# Altium footprint library QFN50P200X200X60-13N-D.PcbLib: 1 footprints
Each footprint in its own frame and in the unit in brackets; x right, y up, seen from the top. Pads: shape width x height; smd on the part's side, far side on the other; paste and mask are expansions set on the pad; w line width, h text height; cw(c..) or ccw(c..) is an arc to the next point about the centre after c.
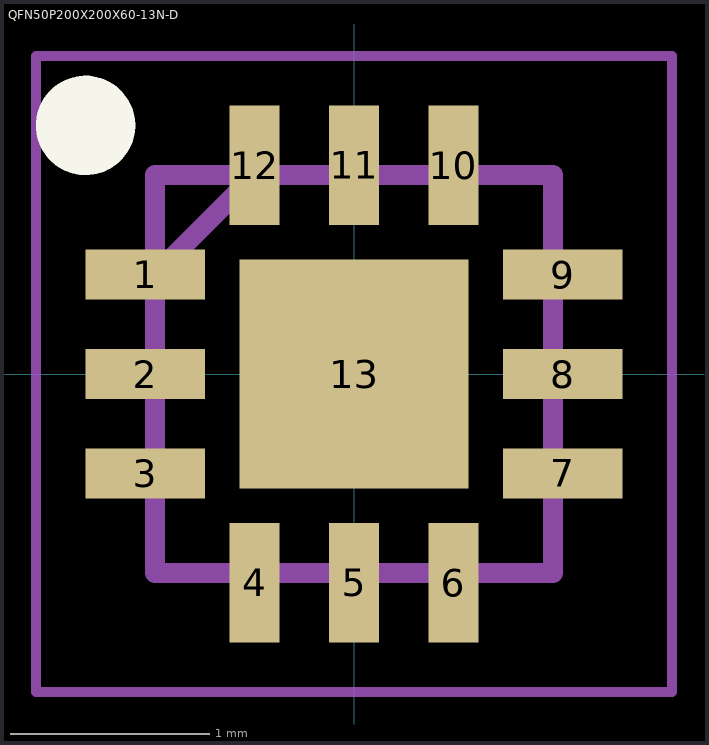
[diagram p0: the footprint, top view; thin cyan lines are the x and y axes]

## QFN50P200X200X60-13N-D [mm]
pads (13):
  rect 0.6x0.25 smd: 1(-1.05,0.5) 2(-1.05,0) 3(-1.05,-0.5) 7(1.05,-0.5) 8(1.05,0) 9(1.05,0.5)
  rect 0.25x0.6 smd: 4(-0.5,-1.05) 5(0,-1.05) 6(0.5,-1.05) 10(0.5,1.05) 11(0,1.05) 12(-0.5,1.05)
  rect 1.15x1.15 smd: 13(0,0)
Top Overlay:
  circle w0.25: c-1.35,1.25 r0.125
Mechanical 15:
  lines w0.1: -1,0.5 -0.5,1 ; -1,-1 1,-1 1,1 -1,1 -1,-1
Mechanical 20:
  lines w0.05: -1.6,-1.6 1.6,-1.6 1.6,1.6 -1.6,1.6 -1.6,-1.6